# Altium footprint library TPS63020QDSJTQ1.PcbLib: 1 footprints
Each footprint in its own frame and in the unit in brackets; x right, y up, seen from the top. Pads: shape width x height; smd on the part's side, far side on the other; paste and mask are expansions set on the pad; w line width, h text height; cw(c..) or ccw(c..) is an arc to the next point about the centre after c.
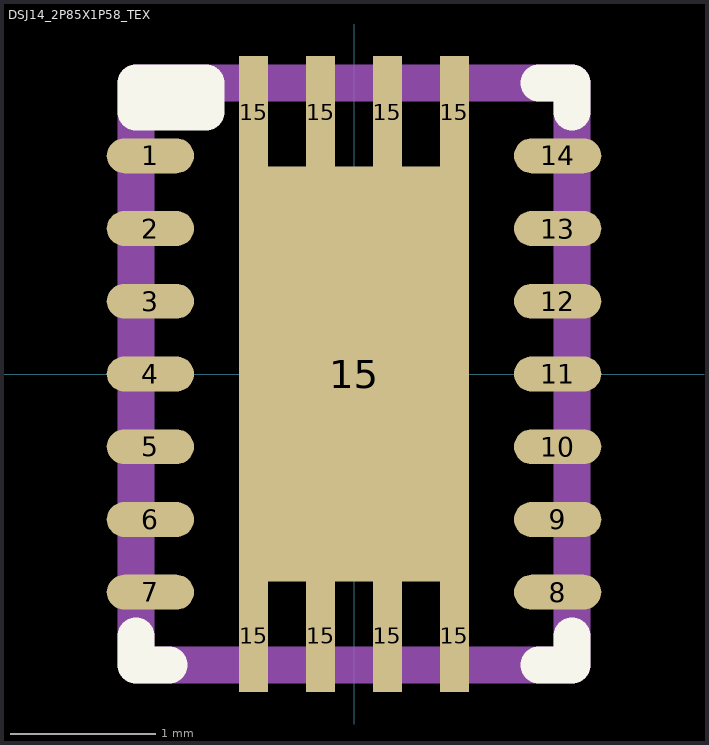
[diagram p0: the footprint, top view; thin cyan lines are the x and y axes]

## DSJ14_2P85X1P58_TEX [mm]
pads (23):
  oval 0.6x0.24 smd: 1(-1.4,1.5) 2(-1.4,1) 3(-1.4,0.5) 4(-1.4,0) 5(-1.4,-0.5) 6(-1.4,-1) 7(-1.4,-1.5) 8(1.4,-1.5) 9(1.4,-1) 10(1.4,-0.5) 11(1.4,0) 12(1.4,0.5) 13(1.4,1) 14(1.4,1.5)
  rect 0.2x0.775 smd: 15(-0.69,1.8) 15(-0.69,-1.8) 15(-0.23,1.8) 15(-0.23,-1.8) 15(0.23,1.8) 15(0.23,-1.8) 15(0.69,1.8) 15(0.69,-1.8)
  rect 1.58x2.85 smd: 15(0,0)
Top Overlay:
  lines w0.254: -1.5,-1.802 -1.5,-2 -1.27,-2 ; 1.27,-2 1.5,-2 1.5,-1.802 ; 1.27,2 1.5,2 1.5,1.802 ; -1.5,1.802 -1.016,1.802 -1.016,2 -1.5,2 -1.5,1.802
Mechanical 13:
  lines w0.254: -1.5,-2 1.5,-2 1.5,2 -1.5,2 -1.5,-2
3D body: height 0.9, standoff 0, extent -1.5,-2 1.5,2